# Altium footprint library CHS.PcbLib: 1 footprints
Each footprint in its own frame and in the unit in brackets; x right, y up, seen from the top. Pads: shape width x height; smd on the part's side, far side on the other; paste and mask are expansions set on the pad; w line width, h text height; cw(c..) or ccw(c..) is an arc to the next point about the centre after c.
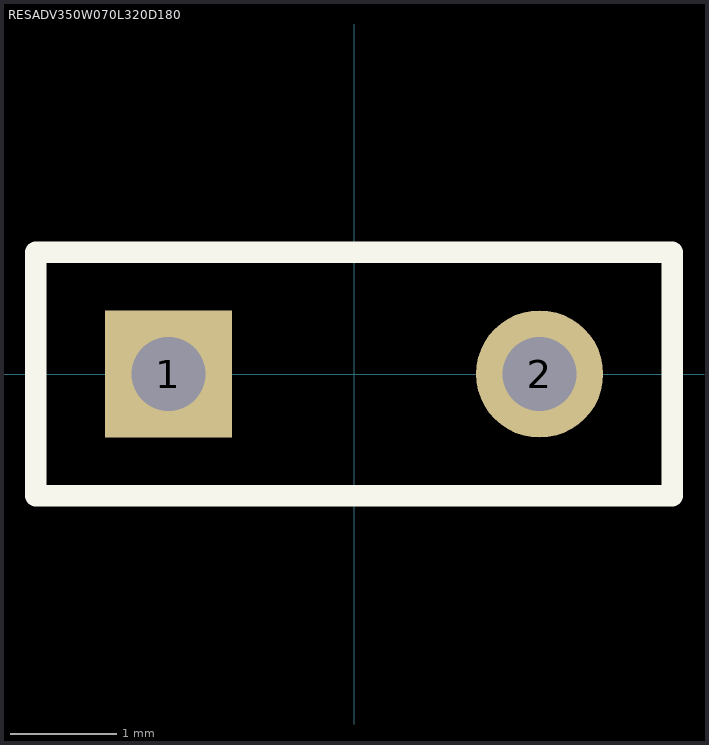
[diagram p0: the footprint, top view; thin cyan lines are the x and y axes]

## RESADV350W070L320D180 [mm]
height 5
pads (2):
  rect 1.2x1.2 hole 0.7 mask+0.051: 1(-1.75,0)
  round 1.2 hole 0.7 mask+0.051: 2(1.75,0)
Top Overlay:
  lines w0.203: -3,-1.15 3,-1.15 3,1.15 -3,1.15 -3,-1.15
Mechanical 1:
  text "'.Designator'" at 0,0 h1.02
Mechanical 15:
  lines w0.127: -3,-1.15 -3,0 -3,1.15 0,1.15 3,1.15 3,0 3,-1.15 0,-1.15 -3,-1.15
3D body: height 4, standoff 0, extent -3,-1.15 3,1.15